# Altium schematic symbol library Diodes.SchLib: 11 symbols
Pins are listed as number, name and electrical type; pins without a type are passive.

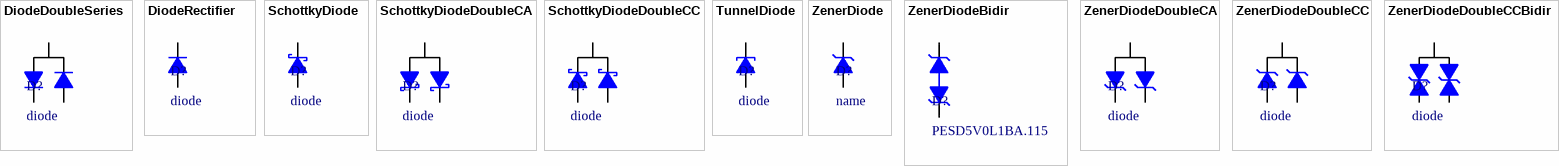
[diagram p0: symbols DiodeDoubleSeries to ZenerDiodeDoubleCCBidir]

## DiodeDoubleSeries
designator D?, comment diode
Schottky Diode double CA; Manufacturer: 0; Name: diode; Supplier: supplier; HelpURL: 0; BOMString: diode
footprint SOT-23
footprint SOT-323
pins: 1 "Test", 2 "Test", 3 "Test"

## DiodeRectifier
designator D?, comment diode
Diode rectifier; Manufacturer: 0; Name: diode; Supplier: supplier; HelpURL: 0; BOMString: diode
footprint SOD-323 (SOIC, 2-Leads, Body 1,30x1,78mm, Pitch 1,27mm, IPC Medium Density)
footprint SMB
footprint SMA
footprint SMC (DO-214-AB/SMC Molded Diode, Body 7.9x5.9mm, IPC Medium Density)
footprint SOD-123FL (SODFL, 2-Leads, Body 1,65x3,60mm, IPC Medium Density)
footprint SOD-882_marked (DFN, 2-Leads, Body 0,60x1,00mm, Pitch 0,65mm, IPC Medium Density)
footprint SOD-882 (DFN, 2-Leads, Body 0,60x1,00mm, Pitch 0,65mm, IPC Medium Density)
footprint SOD-523 (SODFL, 2-Leads, Body 0,80x1,60mm, IPC Medium Density)
footprint SOD-323FL (SODFL, 2-Leads, Body 1,25x2,50mm, IPC Medium Density)
pins: 1 "Test", 2 "Test"

## SchottkyDiode
designator D?, comment diode
Schottky Diode; Manufacturer: 0; Name: diode; Supplier: supplier; HelpURL: 0; BOMString: diode
footprint SOD-323 (SOIC, 2-Leads, Body 1,30x1,78mm, Pitch 1,27mm, IPC Medium Density)
footprint SMB
footprint SMA
footprint SMC (DO-214-AB/SMC Molded Diode, Body 7.9x5.9mm, IPC Medium Density)
footprint SOD-123FL (SODFL, 2-Leads, Body 1,65x3,60mm, IPC Medium Density)
footprint SOD-882 (DFN, 2-Leads, Body 0,60x1,00mm, Pitch 0,65mm, IPC Medium Density)
footprint SOD-882_marked (DFN, 2-Leads, Body 0,60x1,00mm, Pitch 0,65mm, IPC Medium Density)
footprint SOD-523 (SODFL, 2-Leads, Body 0,80x1,60mm, IPC Medium Density)
footprint SOD-123 (SODFL, 2-Leads, Body 1,65x3,60mm, IPC Medium Density)
footprint SOD-323FL (SODFL, 2-Leads, Body 1,25x2,50mm, IPC Medium Density)
footprint SMP (SODFL, 2-Leads, Body 1,65x3,60mm, IPC Medium Density)
pins: 1 "Test", 2 "Test"

## SchottkyDiodeDoubleCA
designator D?, comment diode
Schottky Diode double CA; Manufacturer: 0; Name: diode; Supplier: supplier; HelpURL: 0; BOMString: diode
footprint SOT-23
footprint SOT-323
pins: 1 "Test", 2 "Test", 3 "Test"

## SchottkyDiodeDoubleCC
designator D?, comment diode
Schottky Diode double CC; Manufacturer: 0; Name: diode; Supplier: supplier; HelpURL: 0; BOMString: diode
footprint SOT-23
footprint SOT-323
pins: 1 "Test", 2 "Test", 3 "Test"

## TunnelDiode
designator D?, comment diode
Tunnel Diode; Manufacturer: 0; Name: diode; Supplier: supplier; HelpURL: 0; BOMString: diode
footprint SMA
footprint SMB
footprint SMC (DO-214-AB/SMC Molded Diode, Body 7.9x5.9mm, IPC Medium Density)
footprint SOD-323 (SOIC, 2-Leads, Body 1,30x1,78mm, Pitch 1,27mm, IPC Medium Density)
footprint SOD-523 (SODFL, 2-Leads, Body 0,80x1,60mm, IPC Medium Density)
footprint SOD-882 (DFN, 2-Leads, Body 0,60x1,00mm, Pitch 0,65mm, IPC Medium Density)
footprint SOD-123FL (SODFL, 2-Leads, Body 1,65x3,60mm, IPC Medium Density)
footprint SOD-882_marked (DFN, 2-Leads, Body 0,60x1,00mm, Pitch 0,65mm, IPC Medium Density)
footprint SOD-323FL (SODFL, 2-Leads, Body 1,25x2,50mm, IPC Medium Density)
pins: 1 "Test", 2 "Test"

## ZenerDiode
designator D?, comment name
Zener Diode; Manufacturer: 0; Value: 3.3; BOMString: name 3.3; Supplier: supplier; HelpURL: 0; Name: name
footprint SOD-323 (SOIC, 2-Leads, Body 1,30x1,78mm, Pitch 1,27mm, IPC Medium Density)
footprint SOD-523 (SODFL, 2-Leads, Body 0,80x1,60mm, IPC Medium Density)
footprint SOD-123FL (SODFL, 2-Leads, Body 1,65x3,60mm, IPC Medium Density)
footprint SOD-882 (DFN, 2-Leads, Body 0,60x1,00mm, Pitch 0,65mm, IPC Medium Density)
footprint SOD-882_marked (DFN, 2-Leads, Body 0,60x1,00mm, Pitch 0,65mm, IPC Medium Density)
footprint SMA
footprint SMB
footprint SMC (DO-214-AB/SMC Molded Diode, Body 7.9x5.9mm, IPC Medium Density)
footprint SOD-323FL (SODFL, 2-Leads, Body 1,25x2,50mm, IPC Medium Density)
footprint SMP (SODFL, 2-Leads, Body 1,65x3,60mm, IPC Medium Density)
pins: 1 "Test", 2 "Test"

## ZenerDiodeBidir
designator D?, comment PESD5V0L1BA.115
Zener Diode bidirectional; ReverseStandoffVoltage: 5V; Name: PESD5V0L1BA.115; Supplier: supplier; Price(1): 0; Price(100): 0; BOMString: =ReverseStandoffVoltage+' '+Footprint; Value: PESD5V0L1BA.115
footprint SOD-323 (SOIC, 2-Leads, Body 1,30x1,78mm, Pitch 1,27mm, IPC Medium Density)
footprint SOD-882 (DFN, 2-Leads, Body 0,60x1,00mm, Pitch 0,65mm, IPC Medium Density)
footprint SOD-882_marked (DFN, 2-Leads, Body 0,60x1,00mm, Pitch 0,65mm, IPC Medium Density)
footprint SOD-523 (SODFL, 2-Leads, Body 0,80x1,60mm, IPC Medium Density)
footprint SOD-123FL (SODFL, 2-Leads, Body 1,65x3,60mm, IPC Medium Density)
footprint SMA
footprint SMB
footprint SMC (DO-214-AB/SMC Molded Diode, Body 7.9x5.9mm, IPC Medium Density)
footprint SOD-323FL (SODFL, 2-Leads, Body 1,25x2,50mm, IPC Medium Density)
pins: 1 "Test", 2 "Test"

## ZenerDiodeDoubleCA
designator D?, comment diode
Zener Diode double CA; Name: diode; Supplier: supplier; BOMString: diode; Price(100): 0
footprint SOT-23
footprint SOT-323
pins: 1 "Test", 2 "Test", 3 "Test"

## ZenerDiodeDoubleCC
designator D?, comment diode
Zener Diode double CC; Name: diode; Supplier: supplier; BOMString: diode; Price(100): 0
footprint SOT-23
footprint SOT-323
pins: 1 "Test", 2 "Test", 3 "Test"

## ZenerDiodeDoubleCCBidir
designator D?, comment diode
Zener Diode double CC; Name: diode; Supplier: supplier; BOMString: diode; Price(100): 0
footprint SOT-23
footprint SOT-323
footprint SOT-883 (DFN, 3-Leads, Body 0,59x0,98mm, Pitch 0,65mm, IPC Medium Density)
pins: 1 "Test", 2 "Test", 3 "Test"